# EAGLE library part DRV8231DSGR (library shrew-core)
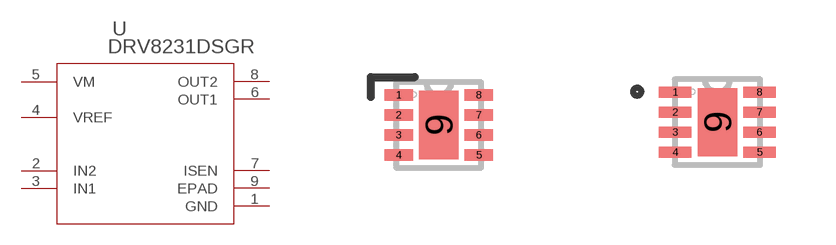
[diagram p3: symbol with the pads of WSON8_DRV8231_TEX; footprints WSON8_DRV8231_TEX, WSON8_DRV8231_TEX-M]

Designator prefix U

## DRV8231DSGR (COPYRIGHT: Copyright (C) 2024 Ultra Librarian. All rights reserved.; MANUFACTURER_PART_NUMBER: DRV8231DSGR; MFR_NAME: Texas Instruments)  [WSON8_DRV8231_TEX]
1  GND  in
2  IN2  in
3  IN1  in
4  VREF  in
5  VM  in
6  OUT1  out
7  ISEN  in
8  OUT2  out
9  EPAD  in

## DRV8231DSGRWSON8_DRV8231_TEX-M (COPYRIGHT: Copyright (C) 2024 Ultra Librarian. All rights reserved.; MANUFACTURER_PART_NUMBER: DRV8231DSGR; MFR_NAME: Texas Instruments)  [WSON8_DRV8231_TEX-M]
Pads as for WSON8_DRV8231_TEX

## DRV8231DSGRWSON8_DRV8231_TEX-L (COPYRIGHT: Copyright (C) 2024 Ultra Librarian. All rights reserved.; MANUFACTURER_PART_NUMBER: DRV8231DSGR; MFR_NAME: Texas Instruments)  [WSON8_DRV8231_TEX-L]
Pads as for WSON8_DRV8231_TEX

## Footprint WSON8_DRV8231_TEX (pad centres in mm)
smd 0.711 x 0.279: 1 -1.003,0.75; 2 -1.003,0.25; 3 -1.003,-0.25; 4 -1.003,-0.75; 5 1.003,-0.75; 6 1.003,-0.25; 7 1.003,0.25; 8 1.003,0.75
smd 0.991 x 1.702: 9 0,0

## Footprint WSON8_DRV8231_TEX-M (pad centres in mm)
smd 0.813 x 0.279: 1 -1.054,0.75; 2 -1.054,0.25; 3 -1.054,-0.25; 4 -1.054,-0.75; 5 1.054,-0.75; 6 1.054,-0.25; 7 1.054,0.25; 8 1.054,0.75
smd 0.991 x 1.702: 9 0,0

## Footprint WSON8_DRV8231_TEX-L (pad centres in mm)
smd 0.61 x 0.279: 1 -0.953,0.75; 2 -0.953,0.25; 3 -0.953,-0.25; 4 -0.953,-0.75; 5 0.953,-0.75; 6 0.953,-0.25; 7 0.953,0.25; 8 0.953,0.75
smd 0.991 x 1.702: 9 0,0